# EAGLE library part 64901629522 (library Wuerth_Elektronik_eiCan_Wire_to_Board_Connectors)
WR-MPC4-4.20mm Male Dual Row Angled Header,16 pins=>Code : WR-MPC4_Stiftbuchse_2reihig_abgewinkelt_64901629522 <http://katalog.we-online.de/media/thumbs2/eican/thb_WR-MPC4_Stiftbuchse_2reihig_abgewinkelt_64901029522.jpg> Details see: http://katalog.we-online.de/en/em/649_0xx_295_22 Created 2014-06-06, Karrer Zheng 2014 (C) Würth Elektronik
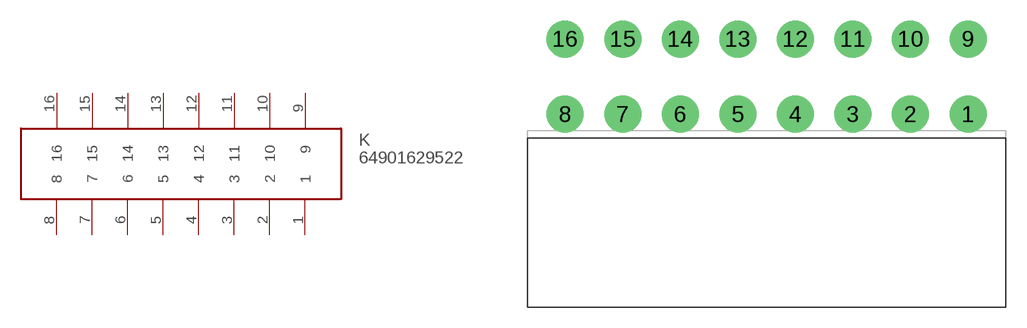
[diagram p304: symbol with the pads of 64901629522; footprint 64901629522]

Designator prefix K

## 64901629522  [64901629522]
1  1
2  2
3  3
4  4
5  5
6  6
7  7
8  8
9  9
10  10
11  11
12  12
13  13
14  14
15  15
16  16

## Footprint 64901629522 (pad centres in mm)
WR-MPC4-4.20mm Male Dual Row Angled Header,16 pins
drill 1.8: 1 12.635,-2.75; 2 8.435,-2.75; 3 4.235,-2.75; 4 0.035,-2.75; 5 -4.165,-2.75; 6 -8.365,-2.75; 7 -12.565,-2.75; 8 -16.765,-2.75; 9 12.635,2.75; 10 8.435,2.75; 11 4.235,2.75; 12 0.035,2.75; 13 -4.165,2.75; 14 -8.365,2.75; 15 -12.565,2.75; 16 -16.765,2.75